# EAGLE library part MCA1-60MH (library minicircuits1)
LTCC RF MIXER wide band Level 13 (LO power +13 dBm 1600 to 6000 MHz) Features: low conversion loss, 6.2 dB typ. wide bandwidth, 1600 to 6000 MHz 1 dB compr typ.: +9 dBm useable to 8 GHz IF, DC to 2000 MHz LTCC double balanced mixer low cost low profile, 0.08" Maximum Operating temperature: -55°C to 100°C Maximum Storage temperature: -55°C to 100°C Maximum RF Power: 50 mW Maximum IF current: 40 mA Applications: PCN defense & weather radar WCDMA defense communications
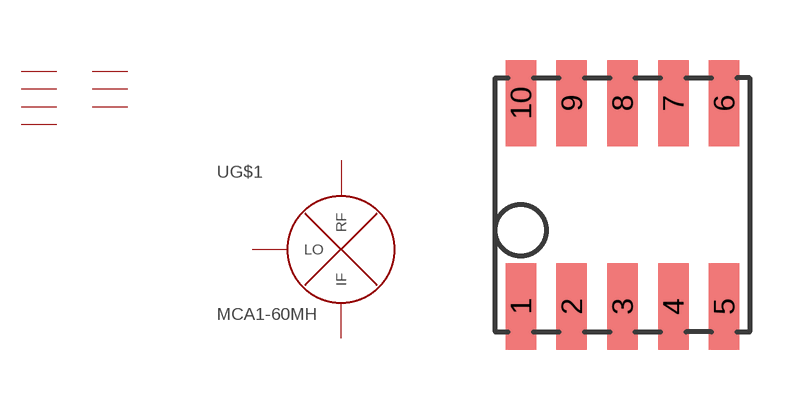
[diagram p30: symbol with the pads of DZ885; footprint DZ885]

Designator prefix -; gates G$1=RF-MIXER G$2=GND G$3=GND G$4=GND G$5=GND G$6=GND G$7=GND G$8=GND

## MCA1-60MH  [DZ885]
1  G$2:GND  pwr
2  G$3:GND  pwr
3  G$1:IF
4  G$4:GND  pwr
5  G$1:RF
6  G$5:GND  pwr
7  G$6:GND  pwr
8  G$7:GND  pwr
9  G$8:GND  pwr
10  G$1:LO

## Footprint DZ885 (pad centres in mm)
DZ885 http://www.minicircuits.com/cgi-bin/inquery.cgi?querystring=dz885&searchtype=case&x=20&y=14
smd 0.762 x 2.159: 1 0,1.27; 2 1.27,1.27; 3 2.54,1.27; 4 3.81,1.27; 5 5.08,1.27; 6 5.08,6.35; 7 3.81,6.35; 8 2.54,6.35; 9 1.27,6.35; 10 0,6.35